# EAGLE library part MAX9911 (library rfops)
Maxim MAX9911 Single Op Amp with shutdown
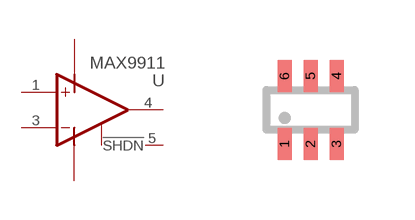
[diagram p6: symbol with the pads of SC70-6L; footprint SC70-6L]

Designator prefix U

## MAX9911  [SC70-6L]
1  +IN  in
2  VSS
3  -IN  in
4  OUT  out
5  NSDHN  pas
6  VDD

## Footprint SC70-6L (pad centres in mm)
SC-70 Package
smd 0.35 x 0.8: 1 -0.65,-0.85; 2 0,-0.85; 3 0.65,-0.85; 4 0.65,0.85; 5 0,0.85; 6 -0.65,0.85